# Altium footprint library GCMPCBLibrerias.PcbLib: 43 footprints (part 3 of 3)
Each footprint in its own frame and in the unit in brackets; x right, y up, seen from the top. Pads: shape width x height; smd on the part's side, far side on the other; paste and mask are expansions set on the pad; w line width, h text height; cw(c..) or ccw(c..) is an arc to the next point about the centre after c.
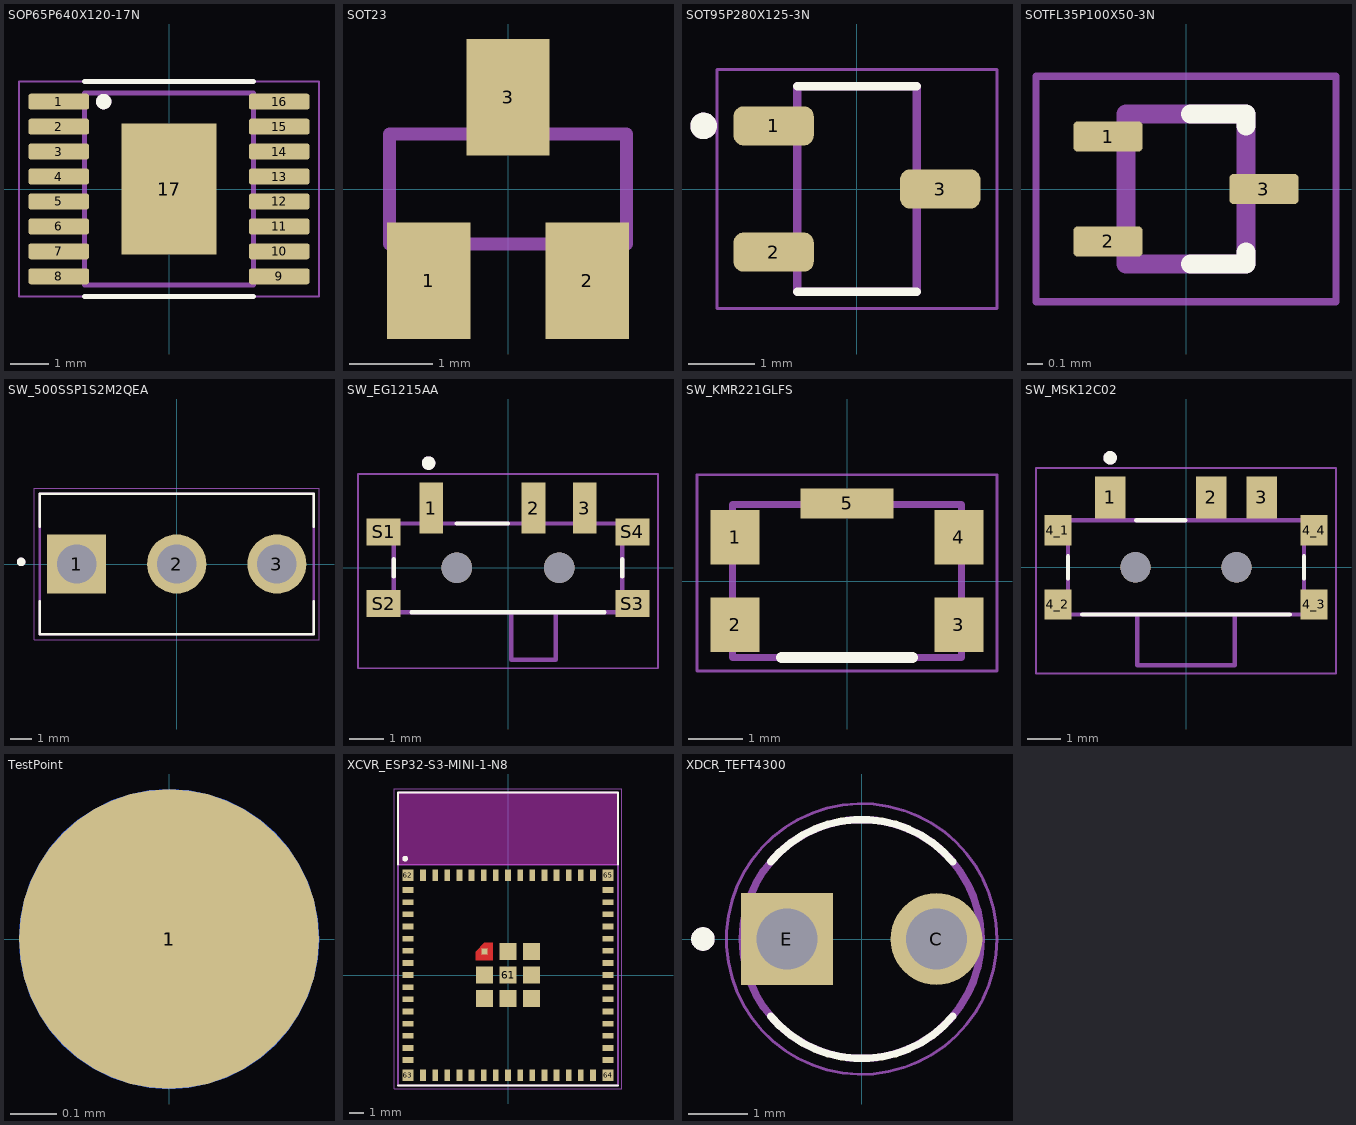
[diagram p2: the footprints below, top view; thin cyan lines are the x and y axes]

## SOP65P640X120-17N [mm]
pads (17):
  rrect25% 1.57x0.41 smd: 1(-2.87,2.275) 2(-2.87,1.625) 3(-2.87,0.975) 4(-2.87,0.325) 5(-2.87,-0.325) 6(-2.87,-0.975) 7(-2.87,-1.625) 8(-2.87,-2.275) 9(2.87,-2.275) 10(2.87,-1.625) 11(2.87,-0.975) 12(2.87,-0.325) 13(2.87,0.325) 14(2.87,0.975) 15(2.87,1.625) 16(2.87,2.275)
  rect 2.48x3.4 smd paste-3: 17(0,0)
Top Overlay:
  circle w0.2: c-1.7,2.275 r0.1
  lines w0.127: -2.2,-2.8 2.2,-2.8 ; -2.2,2.8 2.2,2.8
Top Paste:
  region: 0.8,-1.075 -0.8,-1.075 -0.8,1.075 0.8,1.075
Mechanical 13:
  circle w0.2: c-1.7,2.275 r0.1
  lines w0.127: -2.2,-2.5 2.2,-2.5 2.2,2.5 -2.2,2.5 -2.2,-2.5
Mechanical 15:
  lines w0.05: -3.905,-2.8 3.905,-2.8 3.905,2.8 -3.905,2.8 -3.905,-2.8
3D body "step_temp.STEP": height 1.2, standoff 0, extent -3.2,-2.5 3.2,2.5

## SOT23 [mm]
pads (3):
  rect 1x1.4 smd paste+0 mask+0.102: 1(-0.95,-1.1) 2(0.95,-1.1) 3(0,1.1)
Mechanical 13:
  region: 0.229,0.711 -0.229,0.711 -0.229,1.295 0.229,1.295
  region: 1.168,-1.295 0.711,-1.295 0.711,-0.711 1.168,-0.711
  region: -0.711,-1.295 -1.168,-1.295 -1.168,-0.711 -0.711,-0.711
  lines w0.152: -1.422,-0.66 1.422,-0.66 1.422,0.66 -1.422,0.66 -1.422,-0.66
3D body "step_temp.STEP": height 1.25, standoff 0, extent -1.45,-1.4 1.45,1.4

## SOT95P280X125-3N [mm]
height 1.25
pads (3):
  rrect50% 1.21x0.59 smd: 1(-1.255,0.95) 2(-1.255,-0.95) 3(1.255,0)
Top Overlay:
  circle w0.2: c-2.31,0.95 r0.1
  lines w0.127: -0.9,-1.55 0.9,-1.55 ; -0.9,1.55 0.9,1.55
Mechanical 13:
  circle w0.2: c-2.31,0.95 r0.1
  lines w0.127: -0.9,-1.55 0.9,-1.55 0.9,1.55 -0.9,1.55 -0.9,-1.55
Mechanical 15:
  lines w0.05: -2.11,-1.8 2.11,-1.8 2.11,1.8 -2.11,1.8 -2.11,-1.8
3D body "step_temp.STEP": height 1.25, standoff 0, extent -1.4,-1.45 1.4,1.45

## SOTFL35P100X50-3N [mm]
pads (3):
  rrect25% 0.46x0.2 smd: 1(-0.52,0.35) 2(-0.52,-0.35) 3(0.52,0)
Top Overlay:
  lines w0.127: 0.03,-0.5 0.4,-0.5 0.4,-0.42 ; 0.03,0.5 0.4,0.5 0.4,0.42
Mechanical 13:
  lines w0.127: -0.4,-0.5 0.4,-0.5 0.4,0.5 -0.4,0.5 -0.4,-0.5
Mechanical 15:
  lines w0.05: -1,-0.75 1,-0.75 1,0.75 -1,0.75 -1,-0.75
3D body "TPD2EUSB30DRTR--3DModel-STEP-56544 (1).STEP": height 0.5, standoff 0, extent -0.5,-0.5 0.5,0.5

## SW_500SSP1S2M2QEA [mm]
height 13.59
pads (3):
  rect 2.775x2.775 / inner round 2.775 / far side rect 2.775x2.775 hole 1.85 mask+0.102: 1(-4.7,0)
  round 2.775 hole 1.85 mask+0.102: 2(0,0) 3(4.7,0)
Top Overlay:
  circle w0.2: c-7.3,0.1 r0.1
  lines w0.127: -6.425,-1.75 -6.425,-3.3 6.425,-3.3 6.425,-1.75 ; -6.425,1.75 -6.425,3.3 6.425,3.3 6.425,1.75
Mechanical 13:
  circle w0.2: c-7.3,0.1 r0.1
  lines w0.127: -6.425,-3.3 6.425,-3.3 6.425,3.3 -6.425,3.3 -6.425,-3.3
Mechanical 15:
  lines w0.05: -6.675,-3.55 6.675,-3.55 6.675,3.55 -6.675,3.55 -6.675,-3.55
3D body "500SSP1S2M2QEA.STEP": height 13.59, standoff -6.6, extent -6.35,-3.3 6.35,3.3

## SW_EG1215AA [mm]
height 1.4
pads (9):
  rect 0.7x1.5 smd paste+0 mask+0.102: 1(-2.25,1.75) 2(0.75,1.75) 3(2.25,1.75)
  rect 1x0.8 smd paste+0 mask+0.102: S1(-3.65,1.05) S2(-3.65,-1.05) S3(3.65,-1.05) S4(3.65,1.05)
  round 0.9 hole 0.9 unplated mask+0: ""(-1.5,0) ""(1.5,0)
Top Overlay:
  circle w0.2: c-2.329,3.071 r0.1
  lines w0.127: -3.35,-0.254 -3.35,0.254 ; -2.83,-1.3 2.83,-1.3 ; -1.5,1.3 0,1.3 ; 3.35,-0.254 3.35,0.254
Mechanical 13:
  circle w0.2: c-2.329,3.071 r0.1
  lines w0.127: 0.1,-1.3 1.4,-1.3 ; 0.1,-1.3 0.1,-2.7 1.4,-2.7 1.4,-1.3 ; 0.1,-1.3 -3.35,-1.3 -3.35,1.3 3.35,1.3 3.35,-1.3 1.4,-1.3
Mechanical 15:
  lines w0.05: -4.4,-2.95 4.4,-2.95 4.4,2.75 -4.4,2.75 -4.4,-2.95
3D body "step_temp.STEP": height 1.3, standoff -0.6, extent -3.85,-2.7 3.85,2.2

## SW_KMR221GLFS [mm]
pads (5):
  rect 0.9x1 smd: 1(-2.05,0.8) 2(-2.05,-0.8) 3(2.05,-0.8) 4(2.05,0.8)
  rect 1.7x0.55 smd: 5(0,1.425)
Top Overlay:
  lines w0.2: -1.2,-1.4 1.2,-1.4
Mechanical 13:
  lines w0.127: -2.1,-1.4 -2.1,1.4 2.1,1.4 2.1,-1.4 -2.1,-1.4
Mechanical 15:
  lines w0.05: -2.75,-1.65 -2.75,1.95 2.75,1.95 2.75,-1.65 -2.75,-1.65
3D body "step_temp.STEP": height 1.9, standoff 0, extent -2.3,-1.4 2.3,1.4

## SW_MSK12C02 [mm]
height 1.5
pads (9):
  rect 0.9x1.25 smd paste+0 mask+0.102: 1(-2.25,2.075) 2(0.75,2.075) 3(2.25,2.075)
  rect 0.8x0.9 smd paste+0 mask+0.102: 4_1(-3.8,1.1) 4_2(-3.8,-1.1) 4_3(3.8,-1.1) 4_4(3.8,1.1)
  round 0.9 hole 0.9 unplated mask+0: ""(-1.5,0) ""(1.5,0)
Top Overlay:
  circle w0.2: c-2.25,3.25 r0.1
  lines w0.127: -3.5,-0.33 -3.5,0.33 ; -3.08,-1.4 3.08,-1.4 ; -1.48,1.4 -0.02,1.4 ; 3.5,-0.33 3.5,0.33
Mechanical 13:
  circle w0.2: c-2.25,3.25 r0.1
  lines w0.127: -1.45,-1.4 -1.45,-2.9 1.45,-2.9 1.45,-1.4 ; -1.45,-1.4 -3.5,-1.4 -3.5,1.4 3.5,1.4 3.5,-1.4 1.45,-1.4 ; -1.45,-1.4 1.45,-1.4
Mechanical 15:
  lines w0.05: -4.45,-3.15 -4.45,2.95 4.45,2.95 4.45,-3.15 -4.45,-3.15
3D body "step_temp.STEP": height 1.5, standoff -0.55, extent -4,-2.75 4,2.4

## TestPoint [mm]
pads (2):
  round 0.65 smd far side: 1(0,0)
  round 0.65 smd: 1(0,0)

## XCVR_ESP32-S3-MINI-1-N8 [mm]
height 2.55
pads (73):
  rect 0.8x0.4 smd: 1(-7,5.95) 2(-7,5.1) 3(-7,4.25) 4(-7,3.4) 5(-7,2.55) 6(-7,1.7) 7(-7,0.85) 8(-7,0) 9(-7,-0.85) 10(-7,-1.7) 11(-7,-2.55) 12(-7,-3.4) 13(-7,-4.25) 14(-7,-5.1) 15(-7,-5.95) 31(7,-5.95) 32(7,-5.1) 33(7,-4.25) 34(7,-3.4) 35(7,-2.55) 36(7,-1.7) 37(7,-0.85) 38(7,0) 39(7,0.85) 40(7,1.7) 41(7,2.55) 42(7,3.4) 43(7,4.25) 44(7,5.1) 45(7,5.95)
  rect 0.4x0.8 smd: 16(-5.95,-7) 17(-5.1,-7) 18(-4.25,-7) 19(-3.4,-7) 20(-2.55,-7) 21(-1.7,-7) 22(-0.85,-7) 23(0,-7) 24(0.85,-7) 25(1.7,-7) 26(2.55,-7) 27(3.4,-7) 28(4.25,-7) 29(5.1,-7) 30(5.95,-7) 46(5.95,7) 47(5.1,7) 48(4.25,7) 49(3.4,7) 50(2.55,7) 51(1.7,7) 52(0.85,7) 53(0,7) 54(-0.85,7) 55(-1.7,7) 56(-2.55,7) 57(-3.4,7) 58(-4.25,7) 59(-5.1,7) 60(-5.95,7)
  rect 1.2x1.2 smd: 61(0,0) 61_2(0,1.65) 61_3(1.65,1.65) 61_4(1.65,0) 61_5(1.65,-1.65) 61_6(0,-1.65) 61_7(-1.65,-1.65) 61_8(-1.65,0)
  rect 0.4x0.4 smd paste-1 mask+0: 61_1(-1.65,1.65)
  rect 0.8x0.8 smd: 62(-7,7) 63(-7,-7) 64(7,-7) 65(7,7)
Top Layer:
  region: -1.05,1.05 -2.25,1.05 -2.25,1.65 -1.65,2.25 -1.05,2.25
Top Overlay:
  circle w0.2: c-7.2,8.15 r0.1
  lines w0.127: -7.7,-7.725 7.7,-7.725 ; -7.7,7.725 -7.7,12.775 7.7,12.775 7.7,7.725
Top Paste:
  region: -1.05,1.05 -2.25,1.05 -2.25,1.65 -1.65,2.25 -1.05,2.25
Top Solder:
  region: -0.95,0.95 -2.35,0.95 -2.35,1.7 -1.7,2.35 -0.95,2.35
Keep-Out Layer:
  region: 7.7,7.725 -7.7,7.725 -7.7,12.775 7.7,12.775
  region: 7.7,7.725 -7.7,7.725 -7.7,12.775 7.7,12.775
Mechanical 13:
  circle w0.2: c-7.2,8.15 r0.1
  lines w0.127: -7.7,7.725 7.7,7.725 ; -7.7,7.725 -7.7,12.775 7.7,12.775 7.7,7.725 ; -7.7,7.725 -7.7,-7.725 7.7,-7.725 7.7,7.725
Mechanical 15:
  lines w0.05: -7.95,-7.975 7.95,-7.975 7.95,13.025 -7.95,13.025 -7.95,-7.975
3D body "ESP32-S3-MINI-1-N8--3DModel-STEP-510211.STEP": height 2.55, standoff 0, extent -7.7,-7.725 7.7,12.775

## XDCR_TEFT4300 [mm]
height 6.1
pads (2):
  round 1.56 hole 1.04: C(1.27,0)
  rect 1.56x1.56 / inner round 1.56 / far side rect 1.56x1.56 hole 1.04: E(-1.27,0)
Top Overlay:
  circle w0.2: c-2.7,0 r0.1
  lines w0.127: -1.55,-1.31 ccw(c0,-0.009) 1.55,-1.31 ; -1.55,1.31 cw(c0,0.009) 1.55,1.31
Mechanical 13:
  circle w0.127: c0,0 r2.03
  circle w0.2: c-2.7,0 r0.1
Mechanical 15:
  circle w0.05: c0,0 r2.3
3D body "step_temp.STEP": height 6.1, standoff -28.8, extent -1.6,-1.95 1.6,1.95